# EAGLE library part ZXBM5210-S-13 (library hasauino)
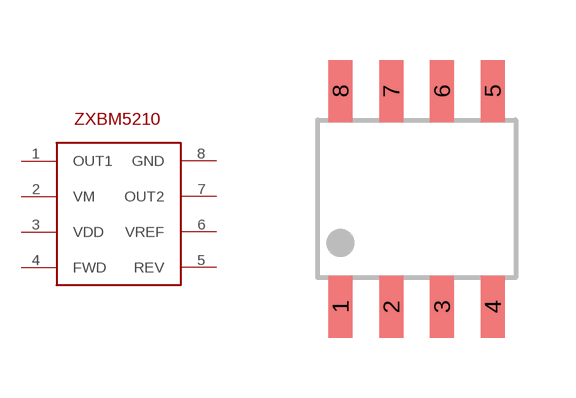
[diagram p0: symbol with the pads of ZXBM5210-S-13; footprint ZXBM5210-S-13]

Designator prefix -

## ZXBM5210-S-13  [ZXBM5210-S-13]
1  OUT1
2  VM
3  VDD
4  FWD
5  REV
6  VREF
7  OUT2
8  GND

## Footprint ZXBM5210-S-13 (pad centres in mm)
smd 0.6 x 1.55: 1 0,-5.4; 2 1.27,-5.4; 3 2.54,-5.4; 4 3.81,-5.4; 5 3.81,0; 6 2.54,0; 7 1.27,0; 8 0,0